# Altium footprint library CRHT-D000028.PcbLib: 5 footprints
Each footprint in its own frame and in the unit in brackets; x right, y up, seen from the top. Pads: shape width x height; smd on the part's side, far side on the other; paste and mask are expansions set on the pad; w line width, h text height; cw(c..) or ccw(c..) is an arc to the next point about the centre after c.
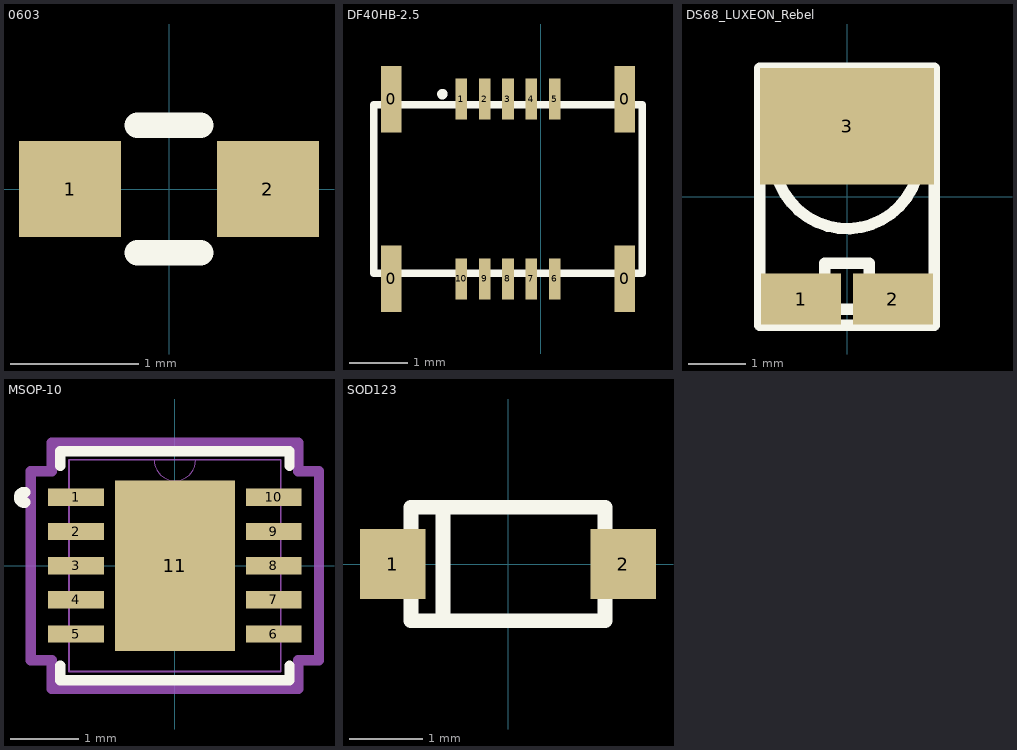
[diagram p0: the footprints below, top view; thin cyan lines are the x and y axes]

## 0603 [mm]
pads (2):
  rect 0.8x0.75 smd: 1(-0.775,0) 2(0.775,0)
Top Overlay:
  lines w0.2: -0.25,-0.5 0.25,-0.5 ; -0.25,0.5 0.25,0.5

## DF40HB-2.5 [mm]
pads (14):
  rect 0.35x1.14 smd: 0(-2.564,-4.616) 0(-2.564,-1.536) 0(1.436,-4.616) 0(1.436,-1.536)
  rect 0.2x0.7 smd: 1(-1.364,-1.536) 2(-0.964,-1.536) 3(-0.564,-1.536) 4(-0.164,-1.536) 5(0.236,-1.536) 6(0.236,-4.616) 7(-0.164,-4.616) 8(-0.564,-4.616) 9(-0.964,-4.616) 10(-1.364,-4.616)
Top Overlay:
  circle w0.127: c-1.689,-1.451 r0.025
  lines w0.127: -2.864,-4.516 -2.864,-1.636 1.736,-1.636 1.736,-4.516 -2.864,-4.516

## DS68_LUXEON_Rebel [mil]
pads (3):
  rect 55x35 smd: 1(-31.5,-70.28) 2(31.5,-70.28)
  rect 120x80 smd: 3(0,48.62)
Top Overlay:
  circle w7.87: c0,28.35 r50.2
  lines w7.87: -60.04,-88.39 60.04,-88.39 60.04,88.39 -60.04,88.39 -60.04,-88.39 ; -15.35,-77.17 15.35,-77.17 15.35,-45.67 -15.35,-45.67 -15.35,-77.17

## MSOP-10 [mil]
height 43.31
pads (11):
  rect 32x10 smd paste+0 mask+0: 1(-57,39.37) 2(-57,19.68) 3(-57,0) 4(-57,-19.68) 5(-57,-39.37) 6(57,-39.37) 7(57,-19.68) 8(57,0) 9(57,19.68) 10(57,39.37)
  rect 69x98 smd paste+0 mask+0: 11(0,0)
Top Overlay:
  lines w6: -86.1,36.46 cw(c-86.84,39.37) -86.1,42.28 ; -66,-57.47 -66,-66 66,-66 66,-57.47 ; -66,57.47 -66,66 66,66 66,57.47
Mechanical 13:
  lines w0: -12,61 ccw(c0,61) 12,61
  lines w1: -61,-61 -61,61 61,61 61,-61 -61,-61
Mechanical 15:
  lines w6: -83,-54.37 -71,-54.37 -71,-71 71,-71 71,-54.37 83,-54.37 83,54.37 71,54.37 71,71 -71,71 -71,54.37 -83,54.37 -83,-54.37
3D body: height 10, standoff 0, extent 0,0 10,10

## SOD123 [mm]
pads (2):
  rect 0.9x0.95 smd: 1(-1.575,0) 2(1.575,0)
Top Overlay:
  lines w0.2: -0.889,-0.762 -0.889,0.775 ; -1.325,-0.775 -1.325,0.775 1.325,0.775 1.325,-0.775 -1.325,-0.775